# Altium schematic symbol library LogoCLB.SchLib: 1 symbol
Pins are listed as number, name and electrical type; pins without a type are passive.

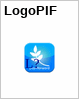
[diagram p0: symbol LogoPIF]

## LogoPIF
designator L?
footprint PIF LOGO BOTTOM OVERLAY
footprint PIF LOGO TOP OVERLAY
footprint PIF LOGO TOP LAYER
footprint PIF LOGO BOTTOM LAYER